# Altium schematic symbol library LM5013DDAR.SchLib: 1 symbol
Pins are listed as number, name and electrical type; pins without a type are passive.

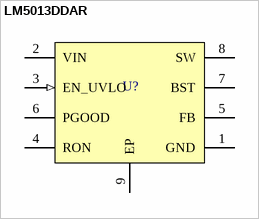
[diagram p0: symbol LM5013DDAR]

## LM5013DDAR
designator U?
6-V to 100-V input, 3.5-A non-synchronous buck DC/DC converter with ultra-low quiescent current (IQ)
pins: 1 GND (power), 2 VIN (power), 3 EN_UVLO (in), 4 RON, 5 FB, 6 PGOOD (oc), 7 BST (power), 8 SW (power), 9 EP (power)